# Altium footprint library LED_5mm.PcbLib: 1 footprints
Each footprint in its own frame and in the unit in brackets; x right, y up, seen from the top. Pads: shape width x height; smd on the part's side, far side on the other; paste and mask are expansions set on the pad; w line width, h text height; cw(c..) or ccw(c..) is an arc to the next point about the centre after c.
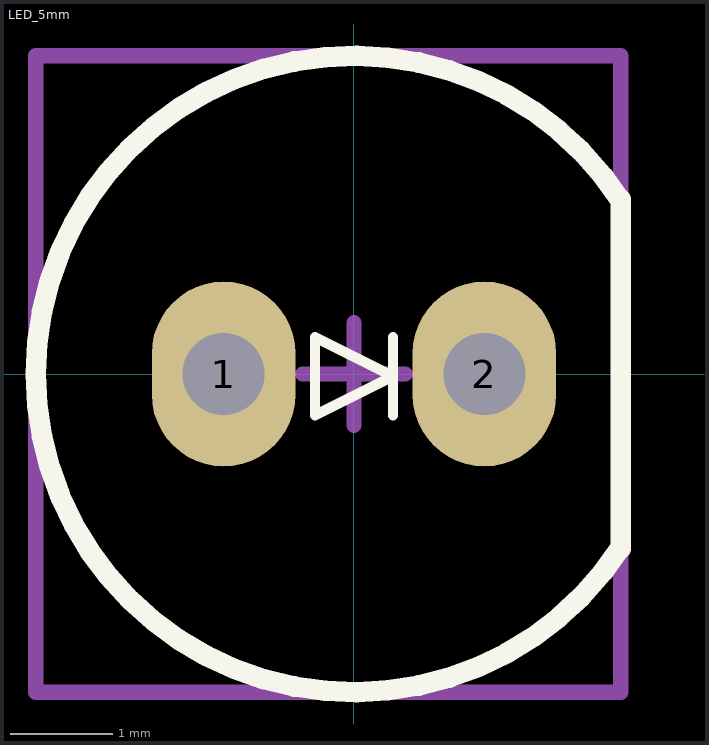
[diagram p0: the footprint, top view; thin cyan lines are the x and y axes]

## LED_5mm [mm] "LED 5MM THROUGH HOLE"
height 7.62
pads (2):
  oval 1.4x1.8 hole 0.8: 1(-1.27,0) 2(1.27,0)
Top Overlay:
  lines w0.1: 0.381,-0.403 0.381,0.359 ; -0.381,-0.403 0.381,-0.022 -0.381,0.359 -0.381,-0.403
  lines w0.2: 2.6,-1.7 2.6,1.7 ; 2.6,-1.688 cw(c0,0) 2.6,1.688
Mechanical 15:
  lines w0.15: -0.5,0 0.5,0 ; 0,-0.5 0,0.5 ; -3.1,-3.1 2.6,-3.1 2.6,3.1 -3.1,3.1 -3.1,-3.1
3D body "LED-D5G.step": height 9.14, standoff -6.3, extent -3,-3 2.5,3